# Altium schematic symbol library XC6206P122MR-G.SCHLIB: 1 symbol
Pins are listed as number, name and electrical type; pins without a type are passive.

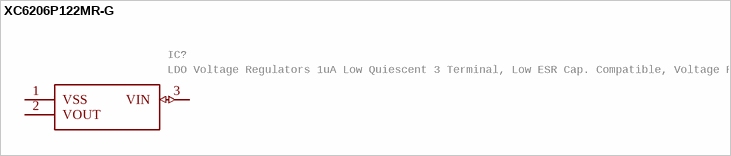
[diagram p0: symbol XC6206P122MR-G]

## XC6206P122MR-G
designator IC?, comment LDO Voltage Regulators 1uA Low Quiescent 3 Terminal, Low ESR Cap. Compatible, Voltage Regulator   Source:  Datasheet
Manufacturer_Name: Torex; GateName_1: G$1; SymbolName_1: XC6206P122MR-G; LibraryName: XC6206P122MR-G; DeviceSetName: XC6206P122MR-G; Package: SOT95P280X130-3N; Manufacturer_Part_Number: XC6206P122MR-G; Mouser_Part_Number: 865-XC6206P122MR-G; Mouser_Price-Stock: https://www.mouser.co.uk/ProductDetail/Torex-Semiconductor/XC6206P122MR-G?qs=AsjdqWjXhJ%2F35%2FU%2FZk2JYg%3D%3D; Height: 1.3mm
footprint SOT95P280X130-3N
pins: 1 VSS, 2 VOUT, 3 VIN (io)